# EAGLE library part 1586-PIC18F4550-I/PT (library CircuitHub)
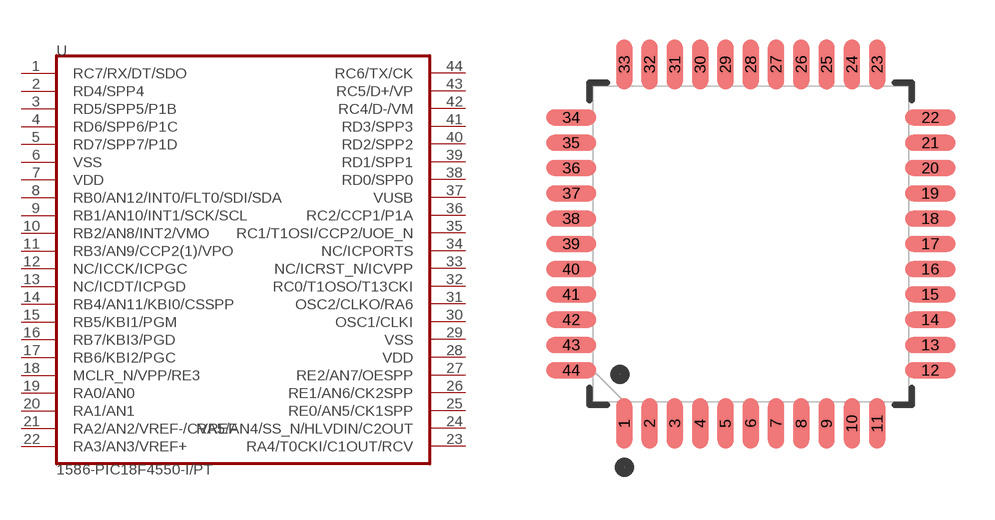
[diagram p3: symbol with the pads of bittenbybytes/axylf; footprint bittenbybytes/axylf]

Designator prefix U

## 1586-PIC18F4550-I/PT (CircuitHubID: 1586; URL: https://circuithub.com/parts/MICROCHIP/PIC18F4550-I%2FPT; footprintRevision: cbd665ea3e7566542faf2266d4c1fac7b0158e08; footprintURN: bittenbybytes/axylf; symbolRevision: 6fcab3e7681bbab4137038658c0f0c25a00fc3ae; symbolURN: bittenbybytes/dlggy)  [bittenbybytes/axylf]
1  RC7/RX/DT/SDO  in
2  RD4/SPP4  in
3  RD5/SPP5/P1B  in
4  RD6/SPP6/P1C  in
5  RD7/SPP7/P1D  in
6  VSS  in
7  VDD  in
8  RB0/AN12/INT0/FLT0/SDI/SDA  in
9  RB1/AN10/INT1/SCK/SCL  in
10  RB2/AN8/INT2/VMO  in
11  RB3/AN9/CCP2(1)/VPO  in
12  NC/ICCK/ICPGC  in
13  NC/ICDT/ICPGD  in
14  RB4/AN11/KBI0/CSSPP  in
15  RB5/KBI1/PGM  in
16  RB7/KBI3/PGD  in
17  RB6/KBI2/PGC  in
18  MCLR_N/VPP/RE3  in
19  RA0/AN0  in
20  RA1/AN1  in
21  RA2/AN2/VREF-/CVREF  in
22  RA3/AN3/VREF+  in
23  RA4/T0CKI/C1OUT/RCV  in
24  RA5/AN4/SS_N/HLVDIN/C2OUT  in
25  RE0/AN5/CK1SPP  in
26  RE1/AN6/CK2SPP  in
27  RE2/AN7/OESPP  in
28  VDD  in
29  VSS  in
30  OSC1/CLKI  in
31  OSC2/CLKO/RA6  in
32  RC0/T1OSO/T13CKI  in
33  NC/ICRST_N/ICVPP  in
34  NC/ICPORTS  in
35  RC1/T1OSI/CCP2/UOE_N  in
36  RC2/CCP1/P1A  in
37  VUSB  in
38  RD0/SPP0  in
39  RD1/SPP1  in
40  RD2/SPP2  in
41  RD3/SPP3  in
42  RC4/D-/VM  in
43  RC5/D+/VP  in
44  RC6/TX/CK  in

## Footprint bittenbybytes/axylf (pad centres in mm)
smd 0.51 x 1.589: 1 -4,-5.681; 2 -3.2,-5.681; 3 -2.4,-5.681; 4 -1.6,-5.681; 5 -0.8,-5.681; 6 0,-5.681; 7 0.8,-5.681; 8 1.6,-5.681; 9 2.4,-5.681; 10 3.2,-5.681; 11 4,-5.681; 23 4,5.681; 24 3.2,5.681; 25 2.4,5.681; 26 1.6,5.681; 27 0.8,5.681; 28 0,5.681; 29 -0.8,5.681; 30 -1.6,5.681; 31 -2.4,5.681; 32 -3.2,5.681; 33 -4,5.681
smd 1.589 x 0.51: 12 5.681,-4; 13 5.681,-3.2; 14 5.681,-2.4; 15 5.681,-1.6; 16 5.681,-0.8; 17 5.681,0; 18 5.681,0.8; 19 5.681,1.6; 20 5.681,2.4; 21 5.681,3.2; 22 5.681,4; 34 -5.681,4; 35 -5.681,3.2; 36 -5.681,2.4; 37 -5.681,1.6; 38 -5.681,0.8; 39 -5.681,0; 40 -5.681,-0.8; 41 -5.681,-1.6; 42 -5.681,-2.4; 43 -5.681,-3.2; 44 -5.681,-4